# EAGLE library part T3168 (library Tristan+Robitaille's+Library)
T3168 Inductive Charging Receiver IC
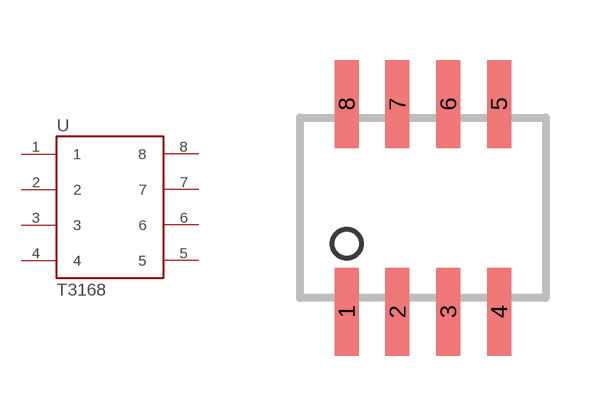
[diagram p16: symbol with the pads of SOP08; footprint SOP08]

Designator prefix U

## T3168  [SOP08]
1  1
2  2
3  3
4  4
5  5
6  6
7  7
8  8

## Footprint SOP08 (pad centres in mm)
SMALL OUTLINE PACKAGE
smd 0.6 x 2.2: 1 -1.905,-2.6; 2 -0.635,-2.6; 3 0.635,-2.6; 4 1.905,-2.6; 5 1.905,2.6; 6 0.635,2.6; 7 -0.635,2.6; 8 -1.905,2.6